# EAGLE library part 691126710008B (library WR-TBL Wire Protector)
WR-TBL Serie 126 B - 5.00 mm Horiz. Entry w. stamping clamp KIND PROPERTIES Pitch 5 mm MATERIAL PROPERTIES Insulator Material PA66 Insulator Flammability Rating UL94 V-0 Insulator Color Green Contact Material Steel Contact Plating Zinc Terminal Screw Material Steel Terminal Screw Plating Zinc Wire Guard Material Steel GENERAL INFORMATION Operating Temperature -40 up to +105 °C Compliance Lead free / RoHS ELECTRICAL PROPERTIES IR cULus 20 A Working Voltage [cULus] 300 V (AC) Withstanding Voltage [cULus] 2000 V (AC) Contact Resistance [cULus] 20 mΩ MECHANICAL PROPERTIES Wire Strip Length 9 (mm) Screw M4 Solid Wire Section (AWG) 30 to 12 (AWG) Solid Wire Section (Metric) 0.05 to 3.31 (mm²) Stranded Wire Section (AWG) 30 to 12 (AWG) Stranded Wire Section (Metric) 0.05 to 3.31 (mm²) CERTIFICATION UL Approval E315414 PACKAGING PROPERTIES Packaging Box <https://katalog.we-online.com/media/images/v2/o33229v209%20Family_WR-TBL_6911267100xxB.jpg> Details see: https://katalog.we-online.com/en/em/TBL_5_00_126B_6911267100XXB Updated by Ella Wu 2019-11-08 2019(C) Wurth Elektronik
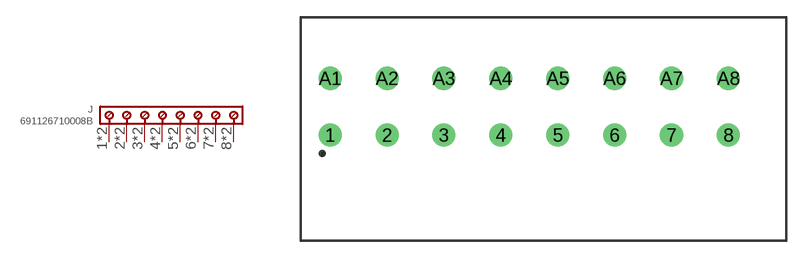
[diagram p28: symbol with the pads of 691126710008B; footprint 691126710008B]

Designator prefix J

## 691126710008B (DATASHEET-URL: https://www.we-online.com/catalog/datasheet/691126710008B.pdf; IR-UL: 20A; MOUNT: THT; PART-NUMBER: 691126710008B; PINS: 8; PITCH: 5mm; TYPE: Horizontal; VALUE: 691126710008B; WIRE: 30 to 12 (AWG) 0.05 to 3.31 (mm²); WORKING-VOLTAGE-UL: 300V(AC))  [691126710008B]
1  1  pas
2  2  pas
3  3  pas
4  4  pas
5  5  pas
6  6  pas
7  7  pas
8  8  pas
A1  1  pas
A2  2  pas
A3  3  pas
A4  4  pas
A5  5  pas
A6  6  pas
A7  7  pas
A8  8  pas

## Footprint 691126710008B (pad centres in mm)
WR-TBL Serie 126 B - 5.00 mm Horiz. Entry w. stamping clamp Max Height = 18.6mm , Pitch 5mm , 8 Pins
drill 1.35: 1 -17.5,-2.5; 2 -12.5,-2.5; 3 -7.5,-2.5; 4 -2.5,-2.5; 5 2.5,-2.5; 6 7.5,-2.5; 7 12.5,-2.5; 8 17.5,-2.5; A1 -17.5,2.5; A2 -12.5,2.5; A3 -7.5,2.5; A4 -2.5,2.5; A5 2.5,2.5; A6 7.5,2.5; A7 12.5,2.5; A8 17.5,2.5